# EAGLE library part TFT_40PIN_FFC (library airball)
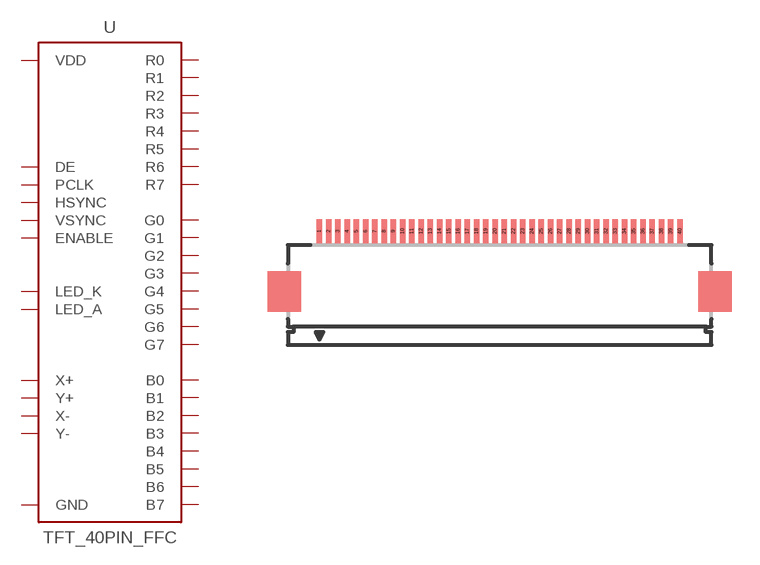
[diagram p6: symbol with the pads of HIROSE_FFC40_FH12-40S-0.5SH; footprint HIROSE_FFC40_FH12-40S-0.5SH]

Designator prefix -

## TFT_40PIN_FFC-BOT  [HIROSE_FFC40_FH12-40S-0.5SH]
1  LED_K  pwr
2  LED_A  pwr
3  GND  pwr
4  VDD  pwr
5  R0  in
6  R1  in
7  R2  in
8  R3  in
9  R4  in
10  R5  in
11  R6  in
12  R7  in
13  G0  in
14  G1  in
15  G2  in
16  G3  in
17  G4  in
18  G5  in
19  G6  in
20  G7  in
21  B0  in
22  B1  in
23  B2  in
24  B3  in
25  B4  in
26  B5  in
27  B6  in
28  B7  in
29  GND  pwr
30  PCLK  in
31  ENABLE  in
32  HSYNC  in
33  VSYNC  in
34  DE  in
36  GND  pwr
37  X+  out
38  Y+  out
39  X-  out
40  Y-  out

## TFT_40PIN_FFC-TOP  [HIROSE_FFC40_FH12-40S-0.5SH]
1  Y-  out
2  X-  out
3  Y+  out
4  X+  out
5  GND  pwr
7  DE  in
8  VSYNC  in
9  HSYNC  in
10  ENABLE  in
11  PCLK  in
12  GND  pwr
13  B7  in
14  B6  in
15  B5  in
16  B4  in
17  B3  in
18  B2  in
19  B1  in
20  B0  in
21  G7  in
22  G6  in
23  G5  in
24  G4  in
25  G3  in
26  G2  in
27  G1  in
28  G0  in
29  R7  in
30  R6  in
31  R5  in
32  R4  in
33  R3  in
34  R2  in
35  R1  in
36  R0  in
37  VDD  pwr
38  GND  pwr
39  LED_A  pwr
40  LED_K  pwr

## Footprint HIROSE_FFC40_FH12-40S-0.5SH (pad centres in mm)
0.5mm Pitch Connectors For FPC/FFC Source: Data sheet <http://www.hirose.co.jp/cataloge_hp/e58605370.pdf>
smd 0.3 x 1.3: 1 -9.75,3.25; 2 -9.25,3.25; 3 -8.75,3.25; 4 -8.25,3.25; 5 -7.75,3.25; 6 -7.25,3.25; 7 -6.75,3.25; 8 -6.25,3.25; 9 -5.75,3.25; 10 -5.25,3.25; 11 -4.75,3.25; 12 -4.25,3.25; 13 -3.75,3.25; 14 -3.25,3.25; 15 -2.75,3.25; 16 -2.25,3.25; 17 -1.75,3.25; 18 -1.25,3.25; 19 -0.75,3.25; 20 -0.25,3.25; 21 0.25,3.25; 22 0.75,3.25; 23 1.25,3.25; 24 1.75,3.25; 25 2.25,3.25; 26 2.75,3.25; 27 3.25,3.25; 28 3.75,3.25; 29 4.25,3.25; 30 4.75,3.25; 31 5.25,3.25; 32 5.75,3.25; 33 6.25,3.25; 34 6.75,3.25; 35 7.25,3.25; 36 7.75,3.25; 37 8.25,3.25; 38 8.75,3.25; 39 9.25,3.25; 40 9.75,3.25